# EAGLE library part SD-SLOT+CD (library GTA04b7)
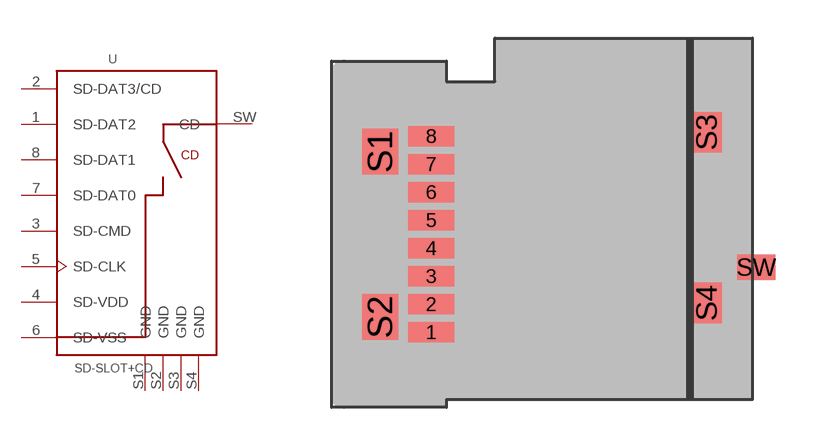
[diagram p36: symbol with the pads of ST1W008S4BR1500; footprint ST1W008S4BR1500]

Designator prefix -

## SD-SLOT+CD  [ST1W008S4BR1500]
1  SD-DAT2
2  SD-DAT3/CD
3  SD-CMD  in
4  SD-VDD  pwr
5  SD-CLK  in
6  SD-VSS  pwr
7  SD-DAT0
8  SD-DAT1
S1  GND  pwr
S2  GND  pwr
S3  GND  pwr
S4  GND  pwr
SW  CD  pas

## Footprint ST1W008S4BR1500 (pad centres in mm)
JAE ST1W008S4B MicroSD reader with card presence detect
smd 1.8 x 0.8: 1 -4,-3.85; 2 -4,-2.75; 3 -4,-1.65; 4 -4,-0.55; 5 -4,0.55; 6 -4,1.65; 7 -4,2.75; 8 -4,3.85
smd 1.4 x 1.8: S1 -6,3.25; S2 -6,-3.25
smd 1.2 x 1.6: S3 6.8,4; S4 6.8,-2.7
smd 1.5 x 1: SW 8.75,-1.3